# Altium footprint library Gelnar.PcbLib: 295 footprints (part 10 of 19)
Each footprint in its own frame and in the unit in brackets; x right, y up, seen from the top. Pads: shape width x height; smd on the part's side, far side on the other; paste and mask are expansions set on the pad; w line width, h text height; cw(c..) or ccw(c..) is an arc to the next point about the centre after c.
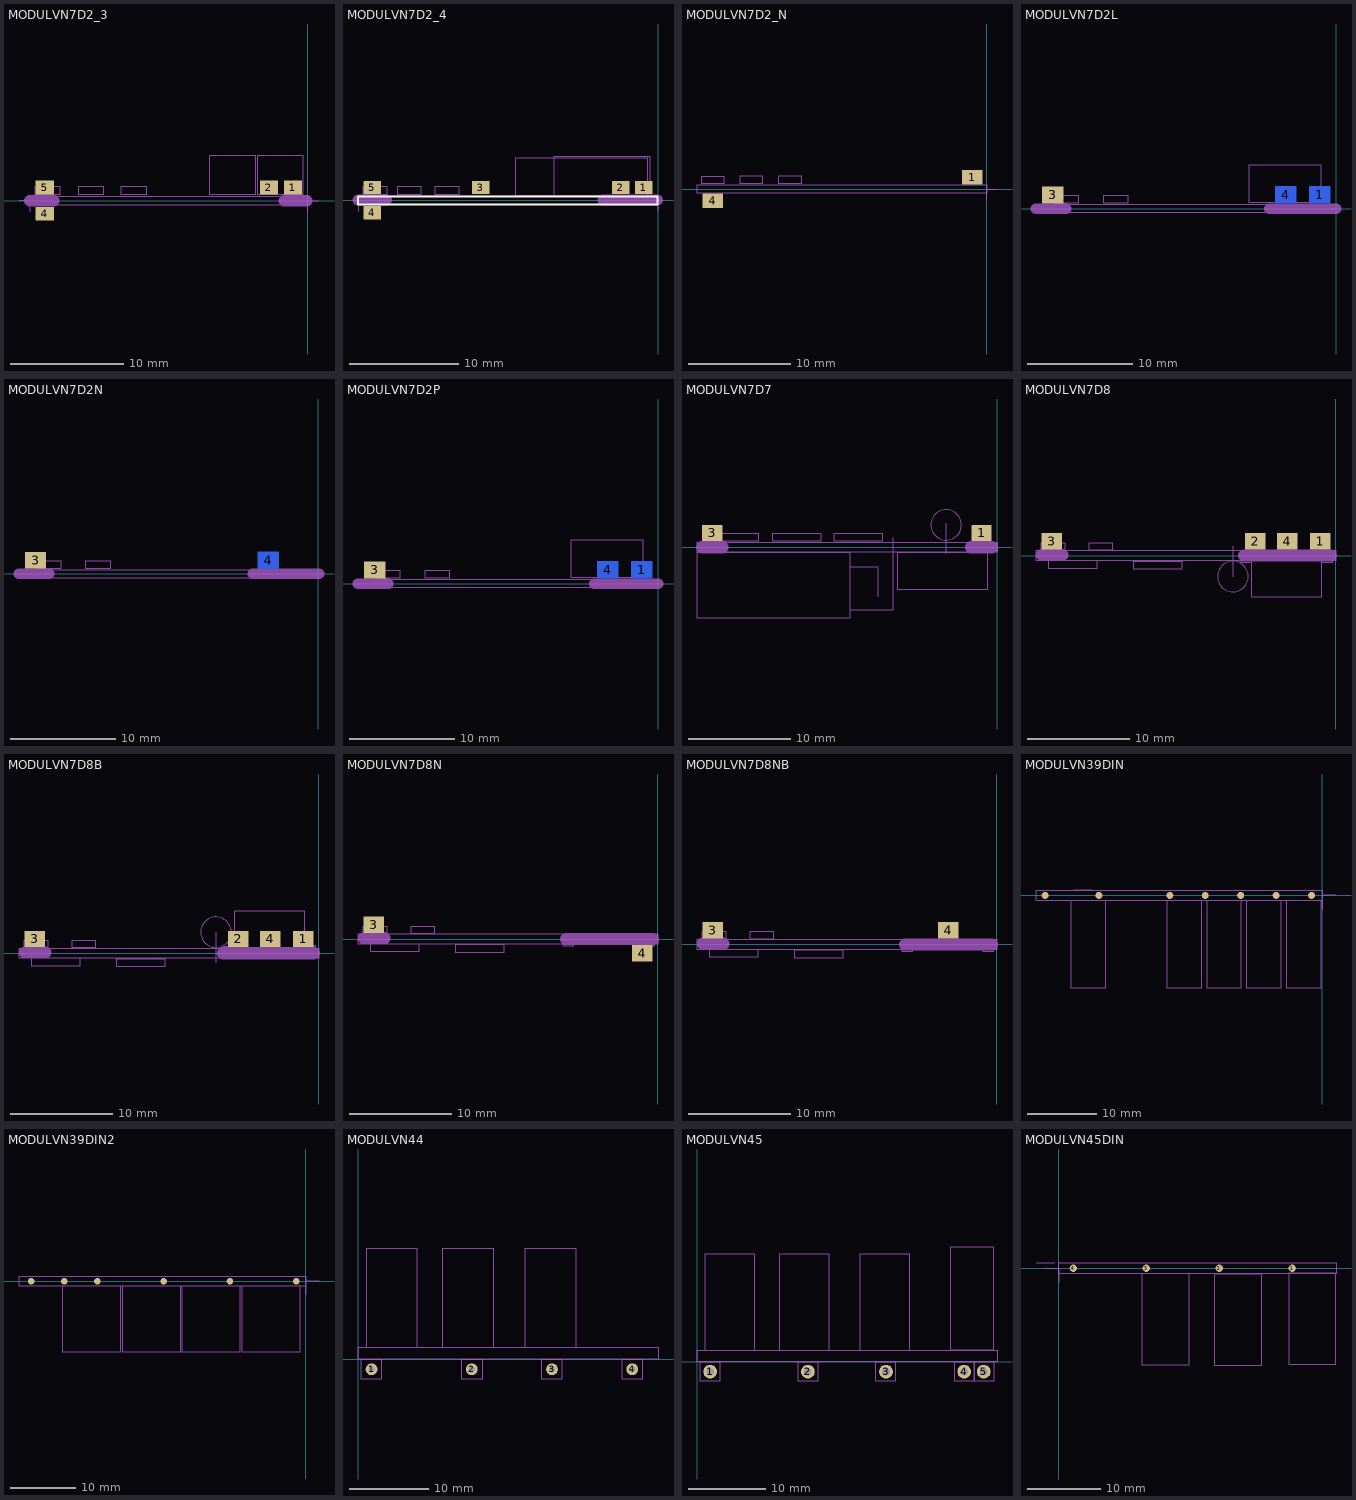
[diagram p9: the footprints below, top view; thin cyan lines are the x and y axes]

## MODULVN7D2_3 [mm]
pads (4):
  rect 1.6x1.2 smd mask+0.05: 1(-1.3,1.15) 2(-3.4,1.15) 4(-23.13,-1.15) 5(-23.13,1.15)
Mechanical 15:
  lines w0.1: -24.4,-0.4 0,-0.4 0,0.4 -24.4,0.4 -24.4,-0.4 ; -23.95,0.508 -21.8,0.508 -21.8,1.27 -23.95,1.27 -23.95,0.508 ; -20.15,0.516 -18,0.516 -18,1.278 -20.15,1.278 -20.15,0.516 ; -16.4,0.516 -14.2,0.516 -14.2,1.278 -16.4,1.278 -16.4,0.516 ; -8.6,0.499 -4.6,0.499 -4.6,3.991 -8.6,3.991 -8.6,0.499 ; -4.409,0.499 -0.409,0.499 -0.409,3.991 -4.409,3.991 -4.409,0.499
Mechanical 16:
  lines w1: -24.45,0 -22.35,0 ; -2.05,0 -0.05,0
Mechanical 19:
  lines w0.1: -25.4,0 -24.4,0 -24.4,-1 ; 0,-1 0,0 1,0

## MODULVN7D2_4 [mm]
pads (5):
  rect 1.6x1.2 smd mask+0.05: 1(-1.3,1.15) 2(-3.4,1.15) 3(-16.2,1.15) 4(-26.13,-1.15) 5(-26.13,1.15)
Top Overlay:
  lines w0.2: -27.45,-0.4 -0.05,-0.4 -0.05,0.35 -27.45,0.35 -27.45,-0.4
Mechanical 15:
  lines w0.1: -25.6,-0.4 -25.6,0.4 ; -27.4,-0.4 0,-0.4 0,0.4 -27.4,0.4 -27.4,-0.4 ; -26.95,0.508 -24.8,0.508 -24.8,1.27 -26.95,1.27 -26.95,0.508 ; -23.8,0.516 -21.7,0.516 -21.7,1.278 -23.8,1.278 -23.8,0.516 ; -20.4,0.516 -18.25,0.516 -18.25,1.278 -20.4,1.278 -20.4,0.516 ; -13,0.4 -1,0.4 -1,3.9 -13,3.9 -13,0.4 ; -9.5,0.4 -0.75,0.4 -0.75,4 -9.5,4 -9.5,0.4
Mechanical 16:
  lines w1: -27.45,0 -24.85,0 ; -5.05,0 -0.05,0
Mechanical 19:
  lines w0.1: -27.4,-1 -27.4,0 -26.4,0 ; -1,0 0,0 0,-1

## MODULVN7D2_N [mm]
pads (2):
  rect 2x1.4 smd mask+0.05: 1(-1.412,1.15) 4(-26.876,-1.15)
Mechanical 15:
  lines w0.1: -28.4,-0.4 0,-0.4 0,0.4 -28.4,0.4 -28.4,-0.4 ; -27.95,0.508 -25.8,0.508 -25.8,1.27 -27.95,1.27 -27.95,0.508 ; -24.15,0.516 -22,0.516 -22,1.278 -24.15,1.278 -24.15,0.516 ; -20.4,0.516 -18.2,0.516 -18.2,1.278 -20.4,1.278 -20.4,0.516
Multi-Layer:
  text "Value" at -6.518,-0.29 h0.75
Mechanical 19:
  lines w0.1: 0,-1 0,0 1,0

## MODULVN7D2L [mm]
pads (3):
  rect 2x1.6 smd far side: 1(-1.524,1.3) 4(-4.763,1.3)
  rect 2x1.6 smd mask+0.05: 3(-26.876,1.3)
Mechanical 15:
  lines w0.1: -28.4,-0.4 0,-0.4 0,0.4 -28.4,0.4 -28.4,-0.4 ; -26.733,0.508 -24.445,0.508 -24.445,1.27 -26.733,1.27 -26.733,0.508 ; -22.034,0.508 -19.746,0.508 -19.746,1.27 -22.034,1.27 -22.034,0.508 ; -8.3,0.586 -1.4,0.586 -1.4,4.112 -8.3,4.112 -8.3,0.586
Mechanical 16:
  lines w1: -28.464,0 -25.6,0 ; -6.35,0 0,0
Multi-Layer:
  text "Value" at -6.506,-0.298 h0.75

## MODULVN7D2N [mm]
pads (2):
  rect 2x1.6 smd mask+0.05: 3(-26.876,1.3)
  rect 2x1.6 smd far side: 4(-4.763,1.3)
Mechanical 15:
  lines w0.1: -28.4,-0.4 0,-0.4 0,0.4 -28.4,0.4 -28.4,-0.4 ; -26.797,0.508 -24.508,0.508 -24.508,1.27 -26.797,1.27 -26.797,0.508 ; -22.098,0.508 -19.809,0.508 -19.809,1.27 -22.098,1.27 -22.098,0.508
Mechanical 16:
  lines w1: -28.464,0 -25.6,0 ; -6.223,0 0.064,0
Multi-Layer:
  text "Value" at -9.3,-0.234 h0.75

## MODULVN7D2P [mm]
pads (3):
  rect 2x1.6 smd far side: 1(-1.524,1.3) 4(-4.763,1.3)
  rect 2x1.6 smd mask+0.05: 3(-26.876,1.3)
Mechanical 15:
  lines w0.1: -28.4,-0.4 0,-0.4 0,0.4 -28.4,0.4 -28.4,-0.4 ; -26.797,0.508 -24.508,0.508 -24.508,1.27 -26.797,1.27 -26.797,0.508 ; -22.098,0.508 -19.809,0.508 -19.809,1.27 -22.098,1.27 -22.098,0.508 ; -8.3,0.586 -1.4,0.586 -1.4,4.112 -8.3,4.112 -8.3,0.586
Mechanical 16:
  lines w1: -28.464,0 -25.6,0 ; -6.032,0 0,0
Multi-Layer:
  text "Value" at -6.506,-0.298 h0.75

## MODULVN7D7 [mm]
pads (2):
  rect 2x1.6 smd mask+0.05: 1(-1.524,1.4) 3(-28,1.4)
Top Solder:
  lines w1.4: -29.002,0 -27.002,0
Mechanical 15:
  circle w0.1: c-5,2.2 r1.5
  lines w0.1: -14.453,-6.159 -10.2,-6.159 -10.2,0.953 ; -14.453,-1.905 -11.722,-1.905 -11.722,-4.889 ; -5.016,-0.635 -5.016,2.349 ; -29.5,-0.5 0,-0.5 0,0.5 -29.5,0.5 -29.5,-0.5 ; -29.5,-0.5 -14.502,-0.5 -14.502,-7 -29.5,-7 -29.5,-0.5 ; -28.194,0.572 -23.494,0.572 -23.494,1.372 -28.194,1.372 -28.194,0.572 ; -22.034,0.572 -17.334,0.572 -17.334,1.372 -22.034,1.372 -22.034,0.572 ; -16.002,0.572 -11.302,0.572 -11.302,1.372 -16.002,1.372 -16.002,0.572 ; -9.817,-4.136 -0.927,-4.136 -0.927,-0.524 -9.817,-0.524 -9.817,-4.136
Mechanical 16:
  lines w1.2: -29.002,0 -27.002,0 ; -2.523,0 -0.523,0
Multi-Layer:
  text "Value" at -7.838,-0.325 h0.75

## MODULVN7D8 [mm]
pads (4):
  rect 2x1.6 smd mask+0.05: 1(-1.524,1.397) 2(-7.918,1.397) 3(-27.877,1.397) 4(-4.763,1.397)
Mechanical 15:
  circle w0.1: c-10.1,-2.054 r1.5
  lines w0.1: -10.096,-2.095 -10.096,0.889 ; -29.4,-0.5 0,-0.5 0,0.5 -29.4,0.5 -29.4,-0.5 ; -28.892,0.508 -26.604,0.508 -26.604,1.27 -28.892,1.27 -28.892,0.508 ; -28.13,-1.27 -23.43,-1.27 -23.43,-0.47 -28.13,-0.47 -28.13,-1.27 ; -24.194,0.508 -21.905,0.508 -21.905,1.27 -24.194,1.27 -24.194,0.508 ; -19.812,-1.333 -15.112,-1.333 -15.112,-0.533 -19.812,-0.533 -19.812,-1.333 ; -9.271,-0.699 -8.319,-0.699 -8.319,-0.508 -9.271,-0.508 -9.271,-0.699 ; -8.3,-4.05 -1.4,-4.05 -1.4,-0.524 -8.3,-0.524 -8.3,-4.05 ; -1.333,-0.699 -0.381,-0.699 -0.381,-0.508 -1.333,-0.508 -1.333,-0.699
Mechanical 16:
  lines w1.2: -28.812,0.064 -26.812,0.064 ; -9.017,0 -0.523,0
Multi-Layer:
  text "Value" at -7.838,-0.325 h0.75

## MODULVN7D8B [mm]
pads (4):
  rect 2x1.6 smd mask+0.05: 1(-1.524,1.397) 2(-7.918,1.397) 3(-27.877,1.397) 4(-4.763,1.397)
Mechanical 15:
  circle w0.1: c-10.1,2.054 r1.5
  lines w0.1: -10.096,-0.953 -10.096,2.032 ; -29.4,-0.5 0,-0.5 0,0.5 -29.4,0.5 -29.4,-0.5 ; -28.892,0.508 -26.604,0.508 -26.604,1.27 -28.892,1.27 -28.892,0.508 ; -28.13,-1.27 -23.43,-1.27 -23.43,-0.47 -28.13,-0.47 -28.13,-1.27 ; -24.194,0.508 -21.905,0.508 -21.905,1.27 -24.194,1.27 -24.194,0.508 ; -19.812,-1.333 -15.112,-1.333 -15.112,-0.533 -19.812,-0.533 -19.812,-1.333 ; -9.271,0.508 -8.319,0.508 -8.319,0.699 -9.271,0.699 -9.271,0.508 ; -8.3,0.586 -1.4,0.586 -1.4,4.112 -8.3,4.112 -8.3,0.586 ; -1.333,0.572 -0.381,0.572 -0.381,0.762 -1.333,0.762 -1.333,0.572
Mechanical 16:
  lines w1.2: -28.812,0.064 -26.812,0.064 ; -9.398,0 -0.523,0

## MODULVN7D8N [mm]
pads (2):
  rect 2x1.6 smd mask+0.05: 3(-27.877,1.397) 4(-1.524,-1.397)
Mechanical 15:
  lines w0.1: -29.4,-0.5 0,-0.5 0,0.5 -29.4,0.5 -29.4,-0.5 ; -28.892,0.508 -26.604,0.508 -26.604,1.27 -28.892,1.27 -28.892,0.508 ; -28.13,-1.27 -23.43,-1.27 -23.43,-0.47 -28.13,-0.47 -28.13,-1.27 ; -24.194,0.508 -21.905,0.508 -21.905,1.27 -24.194,1.27 -24.194,0.508 ; -19.812,-1.333 -15.112,-1.333 -15.112,-0.533 -19.812,-0.533 -19.812,-1.333 ; -9.271,-0.699 -8.319,-0.699 -8.319,-0.508 -9.271,-0.508 -9.271,-0.699 ; -1.333,-0.699 -0.381,-0.699 -0.381,-0.508 -1.333,-0.508 -1.333,-0.699
Mechanical 16:
  lines w1.2: -28.812,0.064 -26.812,0.064 ; -9.017,0 -0.523,0
Multi-Layer:
  text "Value" at -7.838,-0.325 h0.75

## MODULVN7D8NB [mm]
pads (2):
  rect 2x1.6 smd mask+0.05: 3(-27.877,1.397) 4(-4.763,1.397)
Mechanical 15:
  lines w0.1: -29.4,-0.5 0,-0.5 0,0.5 -29.4,0.5 -29.4,-0.5 ; -28.892,0.508 -26.604,0.508 -26.604,1.27 -28.892,1.27 -28.892,0.508 ; -28.13,-1.27 -23.43,-1.27 -23.43,-0.47 -28.13,-0.47 -28.13,-1.27 ; -24.194,0.508 -21.905,0.508 -21.905,1.27 -24.194,1.27 -24.194,0.508 ; -19.812,-1.333 -15.112,-1.333 -15.112,-0.533 -19.812,-0.533 -19.812,-1.333 ; -9.271,-0.699 -8.319,-0.699 -8.319,-0.508 -9.271,-0.508 -9.271,-0.699 ; -1.333,-0.699 -0.381,-0.699 -0.381,-0.508 -1.333,-0.508 -1.333,-0.699
Mechanical 16:
  lines w1.2: -28.812,0.064 -26.812,0.064 ; -9.017,0 -0.523,0

## MODULVN39DIN [mm]
pads (7):
  round 1 smd: 1(-1.5,0) 2(-6.58,0) 3(-11.66,0) 4(-16.74,0) 5(-21.82,0) 6(-31.98,0) 7(-39.7,0)
Mechanical 15:
  lines w0.1: -41,-0.75 0,-0.75 0,0.75 -41,0.75 -41,-0.75 ; -36.005,-13.246 -31.005,-13.246 -31.005,-0.746 -36.005,-0.746 -36.005,-13.246 ; -22.265,-13.246 -17.265,-13.246 -17.265,-0.746 -22.265,-0.746 -22.265,-13.246 ; -16.55,-13.246 -11.55,-13.246 -11.55,-0.746 -16.55,-0.746 -16.55,-13.246 ; -10.835,-13.246 -5.835,-13.246 -5.835,-0.746 -10.835,-0.746 -10.835,-13.246 ; -5.12,-13.246 -0.12,-13.246 -0.12,-0.746 -5.12,-0.746 -5.12,-13.246
Mechanical 16:
  lines w0.1: -35.612,0.71 -33.008,0.71
Mechanical 19:
  lines w0.01: 0,-2 0,0 2,0

## MODULVN39DIN2 [mm]
pads (6):
  round 1 smd: 1(-1.5,0) 2(-11.66,0) 3(-21.82,0) 4(-31.98,0) 5(-37.06,0) 6(-42.14,0)
Mechanical 15:
  lines w0.1: -44,-0.75 0,-0.75 0,0.75 -44,0.75 -44,-0.75 ; -37.4,-10.8 -37.4,-0.8 -28.4,-0.8 -28.4,-10.8 -37.4,-10.8 ; -28.2,-10.8 -28.2,-0.8 -19.2,-0.8 -19.2,-10.8 -28.2,-10.8 ; -19.05,-10.8 -19.05,-0.8 -10.05,-0.8 -10.05,-10.8 -19.05,-10.8 ; -9.85,-10.8 -9.85,-0.8 -0.85,-0.8 -0.85,-10.8 -9.85,-10.8
Mechanical 16:
  lines w0.1: -35.612,0.71 -33.008,0.71
Multi-Layer:
  text "Value" at -10.938,-0.575 h0.75
Mechanical 19:
  lines w0.01: 0,-2 0,0 2,0

## MODULVN44 [mm]
pads (4):
  round 1.5 hole 0.8 mask+0.05: 1(1.714,-1.27) 2(14.414,-1.27) 3(24.575,-1.27) 4(34.734,-1.27)
Mechanical 15:
  lines w0.1: 0,0 38,0 38,1.5 0,1.5 0,0 ; 0.403,-2.54 2.943,-2.54 2.943,0 0.403,0 0.403,-2.54 ; 1.016,1.5 7.516,1.5 7.516,14 1.016,14 1.016,1.5 ; 10.668,1.5 17.168,1.5 17.168,14 10.668,14 10.668,1.5 ; 13.172,-2.54 15.712,-2.54 15.712,0 13.172,0 13.172,-2.54 ; 21.145,1.5 27.645,1.5 27.645,14 21.145,14 21.145,1.5 ; 23.249,-2.54 25.789,-2.54 25.789,0 23.249,0 23.249,-2.54 ; 33.476,-2.54 36.016,-2.54 36.016,0 33.476,0 33.476,-2.54

## MODULVN45 [mm]
pads (5):
  round 1.8 hole 1 mask+0.05: 1(1.714,-1.27) 2(14.414,-1.27) 3(24.575,-1.27) 4(34.734,-1.27) 5(37.274,-1.27)
Mechanical 15:
  lines w0.1: 36.016,-2.54 36.016,0 ; 36.016,-2.54 33.476,-2.54 33.476,0 36.016,0 ; 36.016,-2.54 38.556,-2.54 38.556,0 36.016,0 ; 36.016,-2.54 36.016,0 ; 0,0 39,0 39,1.5 0,1.5 0,0 ; 0.403,-2.54 2.943,-2.54 2.943,0 0.403,0 0.403,-2.54 ; 1.016,1.5 7.516,1.5 7.516,14 1.016,14 1.016,1.5 ; 10.668,1.5 17.168,1.5 17.168,14 10.668,14 10.668,1.5 ; 13.172,-2.54 15.712,-2.54 15.712,0 13.172,0 13.172,-2.54 ; 21.145,1.5 27.645,1.5 27.645,14 21.145,14 21.145,1.5 ; 23.249,-2.54 25.789,-2.54 25.789,0 23.249,0 23.249,-2.54 ; 33.02,1.5 33.02,15 38.52,15 38.52,1.5 33.02,1.5
Multi-Layer:
  text "Value" at 21.562,0.175 h0.75

## MODULVN45DIN [mm]
pads (4):
  round 1 smd: 1(32,0) 2(22,0) 3(12,0) 4(2,0)
Mechanical 15:
  lines w0.1: 0,-0.75 38,-0.75 38,0.75 0,0.75 0,-0.75 ; 11.367,-13.232 17.866,-13.232 17.866,-0.732 11.367,-0.732 11.367,-13.232 ; 21.336,-13.296 27.836,-13.296 27.836,-0.796 21.336,-0.796 21.336,-13.296 ; 31.496,-13.169 37.996,-13.169 37.996,-0.669 31.496,-0.669 31.496,-13.169
Mechanical 16:
  lines w0.1: -3.111,0.71 -0.508,0.71
Multi-Layer:
  text "Value" at 21.562,-0.575 h0.75
Mechanical 19:
  lines w0.01: -2,0 0,0 0,-2